# EAGLE library part 0472192001 (library circuit_tree)
IC
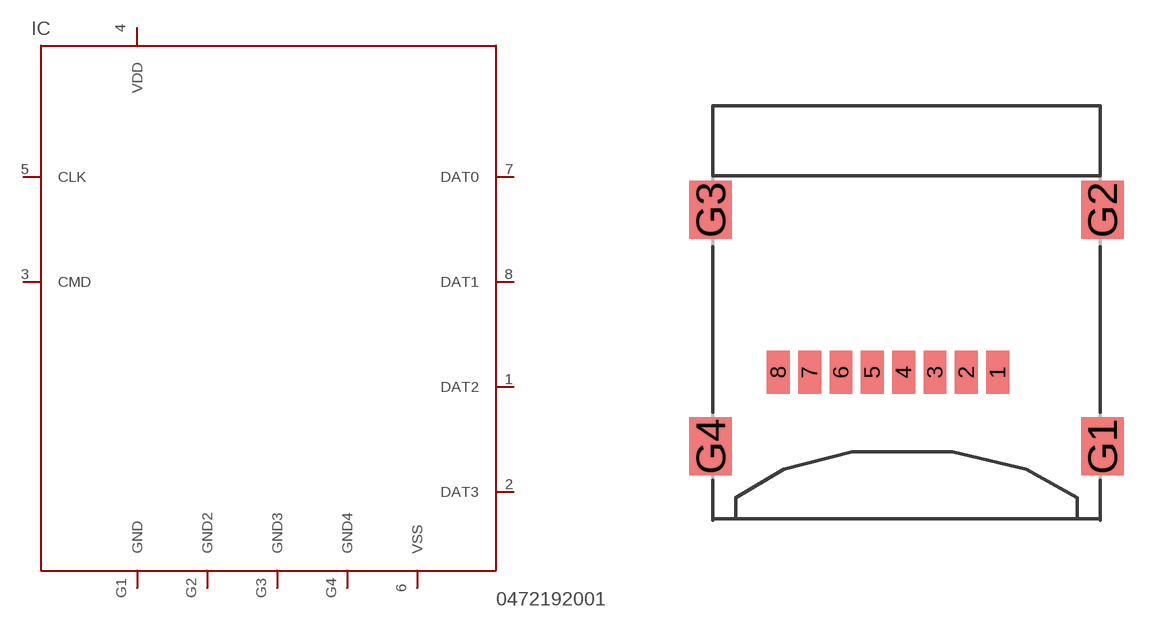
[diagram p2: symbol with the pads of MOLEX_47219-2001; footprint MOLEX_47219-2001]

Designator prefix IC

## 0472192001  [MOLEX_47219-2001]
1  DAT2  pas
2  DAT3  pas
3  CMD  pas
4  VDD  pas
5  CLK  pas
6  VSS  pas
7  DAT0  pas
8  DAT1  pas
G1  GND  pas
G2  GND2  pas
G3  GND3  pas
G4  GND4  pas

## Footprint MOLEX_47219-2001 (pad centres in mm)
smd 0.8 x 1.5: 1 3.2,-2.1; 2 2.1,-2.1; 3 1,-2.1; 4 -0.1,-2.1; 5 -1.2,-2.1; 6 -2.3,-2.1; 7 -3.4,-2.1; 8 -4.5,-2.1
smd 1.5 x 2.05: G1 6.875,-4.7; G2 6.875,3.6; G3 -6.875,3.6; G4 -6.875,-4.7